# EAGLE library part HM6551 (library micro-harris)
MICROCONTROLLER/MEMORY DEVICE
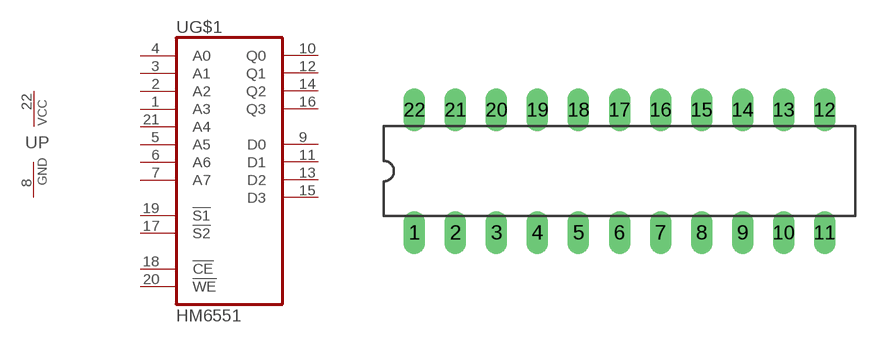
[diagram p41: symbol with the pads of DIL22-3; footprint DIL22-3]

Designator prefix U; gates G$1=HM6551 P=PWRN

## HM6551 (OC_FARNELL: unknown; OC_NEWARK: unknown)  [DIL22-3]
1  G$1:A3  in
2  G$1:A2  in
3  G$1:A1  in
4  G$1:A0  in
5  G$1:A5  in
6  G$1:A6  in
7  G$1:A7  in
8  P:GND  pwr
9  G$1:D0  in
10  G$1:Q0  hiz
11  G$1:D1  in
12  G$1:Q1  hiz
13  G$1:D2  in
14  G$1:Q2  hiz
15  G$1:D3  in
16  G$1:Q3  hiz
17  G$1:!S2  in
18  G$1:!CE  in
19  G$1:!S1  in
20  G$1:!WE  in
21  G$1:A4  in
22  P:VCC  pwr

## Footprint DIL22-3 (pad centres in mm)
Dual In Line Package 0.3 inch
drill 0.813 long: 1 -12.7,-3.81; 2 -10.16,-3.81; 3 -7.62,-3.81; 4 -5.08,-3.81; 5 -2.54,-3.81; 6 0,-3.81; 7 2.54,-3.81; 8 5.08,-3.81; 9 7.62,-3.81; 10 10.16,-3.81; 11 12.7,-3.81; 12 12.7,3.81; 13 10.16,3.81; 14 7.62,3.81; 15 5.08,3.81; 16 2.54,3.81; 17 0,3.81; 18 -2.54,3.81; 19 -5.08,3.81; 20 -7.62,3.81; 21 -10.16,3.81; 22 -12.7,3.81